# Altium footprint library BBCMP-P24-M1200X800.PcbLib: 1 footprints
Each footprint in its own frame and in the unit in brackets; x right, y up, seen from the top. Pads: shape width x height; smd on the part's side, far side on the other; paste and mask are expansions set on the pad; w line width, h text height; cw(c..) or ccw(c..) is an arc to the next point about the centre after c.
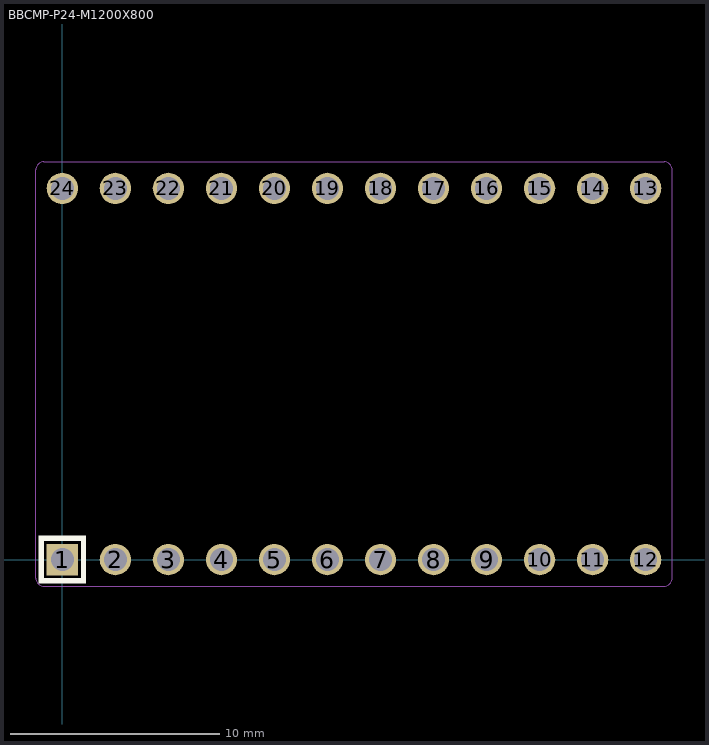
[diagram p0: the footprint, top view; thin cyan lines are the x and y axes]

## BBCMP-P24-M1200X800 [mm]
pads (24):
  rect 1.5x1.5 hole 1.1: 1(0,0)
  round 1.5 hole 1.1: 2(2.54,0) 3(5.08,0) 4(7.62,0) 5(10.16,0) 6(12.7,0) 7(15.24,0) 8(17.78,0) 9(20.32,0) 10(22.86,0) 11(25.4,0) 12(27.94,0) 13(27.94,17.78) 14(25.4,17.78) 15(22.86,17.78) 16(20.32,17.78) 17(17.78,17.78) 18(15.24,17.78) 19(12.7,17.78) 20(10.16,17.78) 21(7.62,17.78) 22(5.08,17.78) 23(2.54,17.78) 24(0,17.78)
Top Overlay:
  rectangle: -1.143,0.889 1.143,1.143
  rectangle: 0.889,-1.143 1.143,1.143
  rectangle: -1.143,-1.143 1.143,-0.889
  rectangle: -1.143,-1.143 -0.889,1.016
Mechanical 13:
  lines w0.05: -1.27,-0.889 ccw(c-0.889,-0.889) -0.889,-1.27 28.829,-1.27 ccw(c28.829,-0.889) 29.21,-0.889 29.21,18.669 ccw(c28.829,18.669) 28.829,19.05 -0.889,19.05 ccw(c-0.889,18.669) -1.27,18.669 -1.27,-0.889
3D body: height 8.2, standoff -3, extent -1.17,-1.253 24.23,1.246
3D body: height 8.2, standoff -3, extent -1.17,16.527 24.23,19.026
3D body: height 8.2, standoff -3, extent 3.91,-1.253 29.31,1.246
3D body: height 8.2, standoff -3, extent 3.91,16.527 29.31,19.026